# EAGLE library part BQ24232H-BATTERY_CHARGER (library Custom)
USB-Friendly Li-ion Battery Charger and Power Path Managment IC
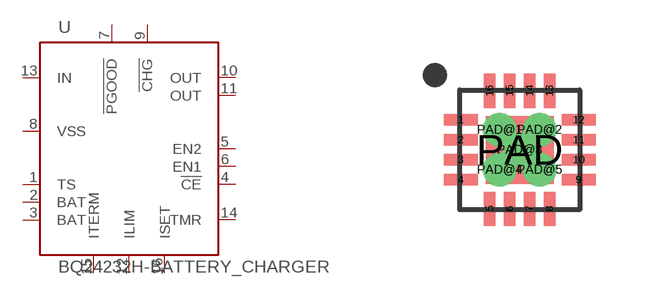
[diagram p14: symbol with the pads of QFN-16; footprint QFN-16]

Designator prefix U

## BQ24232H-BATTERY_CHARGER  [QFN-16]
1  TS  in
2  BAT  pwr
3  BAT  pwr
4  !CE  in
5  EN2  in
6  EN1  in
7  !PGOOD  oc
8  VSS  pwr
9  !CHG  oc
10  OUT  in
11  OUT  in
12  ILIM  in
13  IN  pwr
14  TMR  in
15  ITERM  in
16  ISET

## Footprint QFN-16 (pad centres in mm)
smd 0.85 x 0.28: 1 -1.475,0.75; 2 -1.475,0.25; 3 -1.475,-0.25; 4 -1.475,-0.75; 9 1.475,-0.75; 10 1.475,-0.25; 11 1.475,0.25; 12 1.475,0.75
smd 0.28 x 0.85: 5 -0.75,-1.475; 6 -0.25,-1.475; 7 0.25,-1.475; 8 0.75,-1.475; 13 0.75,1.475; 14 0.25,1.475; 15 -0.25,1.475; 16 -0.75,1.475
smd 1.7 x 1.7: PAD 0,0
drill 0.33 pad 0.33: PAD@1 -0.5,0.5; PAD@2 0.5,0.5; PAD@3 0,0; PAD@4 -0.5,-0.5; PAD@5 0.5,-0.5